# Altium footprint library HW-03-10-G-S-500-200.PcbLib: 1 footprints
Each footprint in its own frame and in the unit in brackets; x right, y up, seen from the top. Pads: shape width x height; smd on the part's side, far side on the other; paste and mask are expansions set on the pad; w line width, h text height; cw(c..) or ccw(c..) is an arc to the next point about the centre after c.
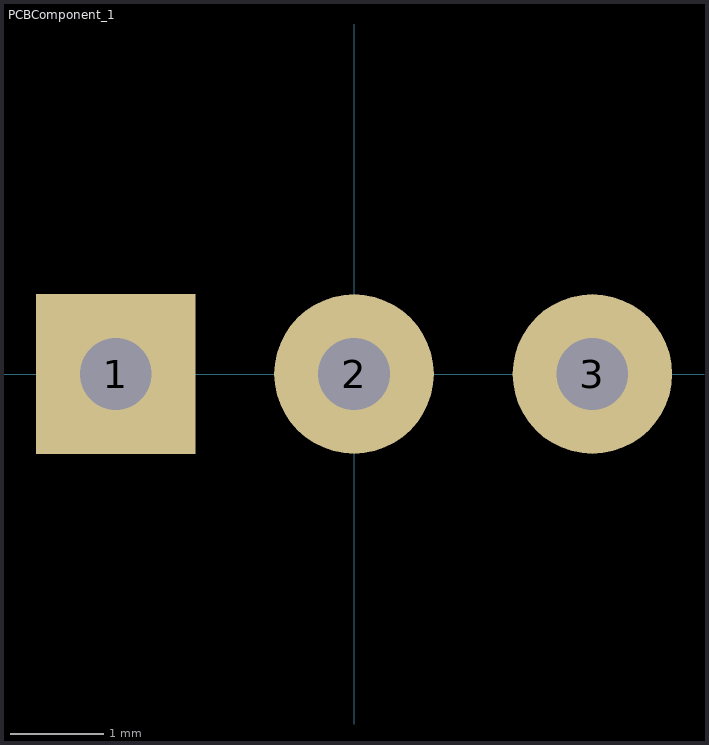
[diagram p0: the footprint, top view; thin cyan lines are the x and y axes]

## PCBComponent_1 [mm]
pads (3):
  rect 1.7x1.7 hole 0.762: 1(-2.54,0)
  round 1.7 hole 0.762: 2(0,0) 3(2.54,0)
3D body "HW-03-10-G-S-500-200.STEP": height 17.78, standoff -3.3, extent -3.81,-1.27 3.81,1.27